# Altium footprint library SR55L000FE66.PcbLib: 3 footprints
Each footprint in its own frame and in the unit in brackets; x right, y up, seen from the top. Pads: shape width x height; smd on the part's side, far side on the other; paste and mask are expansions set on the pad; w line width, h text height; cw(c..) or ccw(c..) is an arc to the next point about the centre after c.
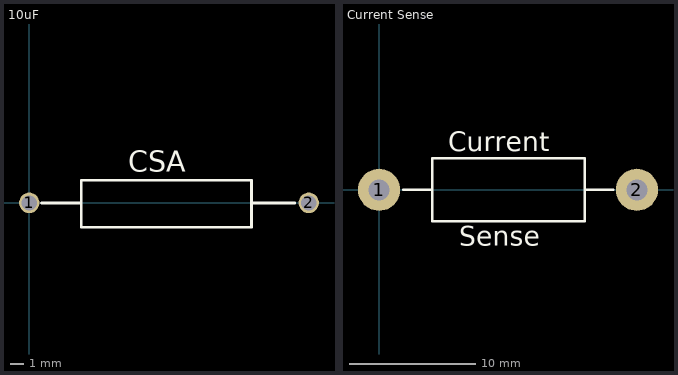
[diagram p0: the footprints below, top view; thin cyan lines are the x and y axes]

## 10uF [mm]
pads (2):
  round 1.5 hole 1.1: 1(0,0) 2(20.447,0)
Top Overlay:
  lines w0.2: 0.889,0 3.721,0 ; 16.256,0 19.431,0 ; 3.798,-1.778 3.798,1.651 16.256,1.651 16.256,-1.778 3.798,-1.778
  text "CSA" at 7.239,2.286 h1.52

## Current Sense [mm]
pads (2):
  round 3.34 hole 1.67: 1(0,0) 2(20.4,0)
Top Overlay:
  lines w0.2: 1.905,0 4.064,0 ; 16.256,0 18.542,0 ; 4.191,-2.5 4.191,0.654 4.191,2.5 16.256,2.5 16.256,0.549 16.256,-0.549 16.256,-2.5 4.845,-2.5 4.191,-2.5
  text "Sense" at 6.35,-4.445 h1.52
  text "Current" at 5.461,3.048 h1.52

## PCBComponent_1 [mm]